# Altium footprint library Crazy_PCB.PcbLib: 126 footprints (part 6 of 8)
Each footprint in its own frame and in the unit in brackets; x right, y up, seen from the top. Pads: shape width x height; smd on the part's side, far side on the other; paste and mask are expansions set on the pad; w line width, h text height; cw(c..) or ccw(c..) is an arc to the next point about the centre after c.
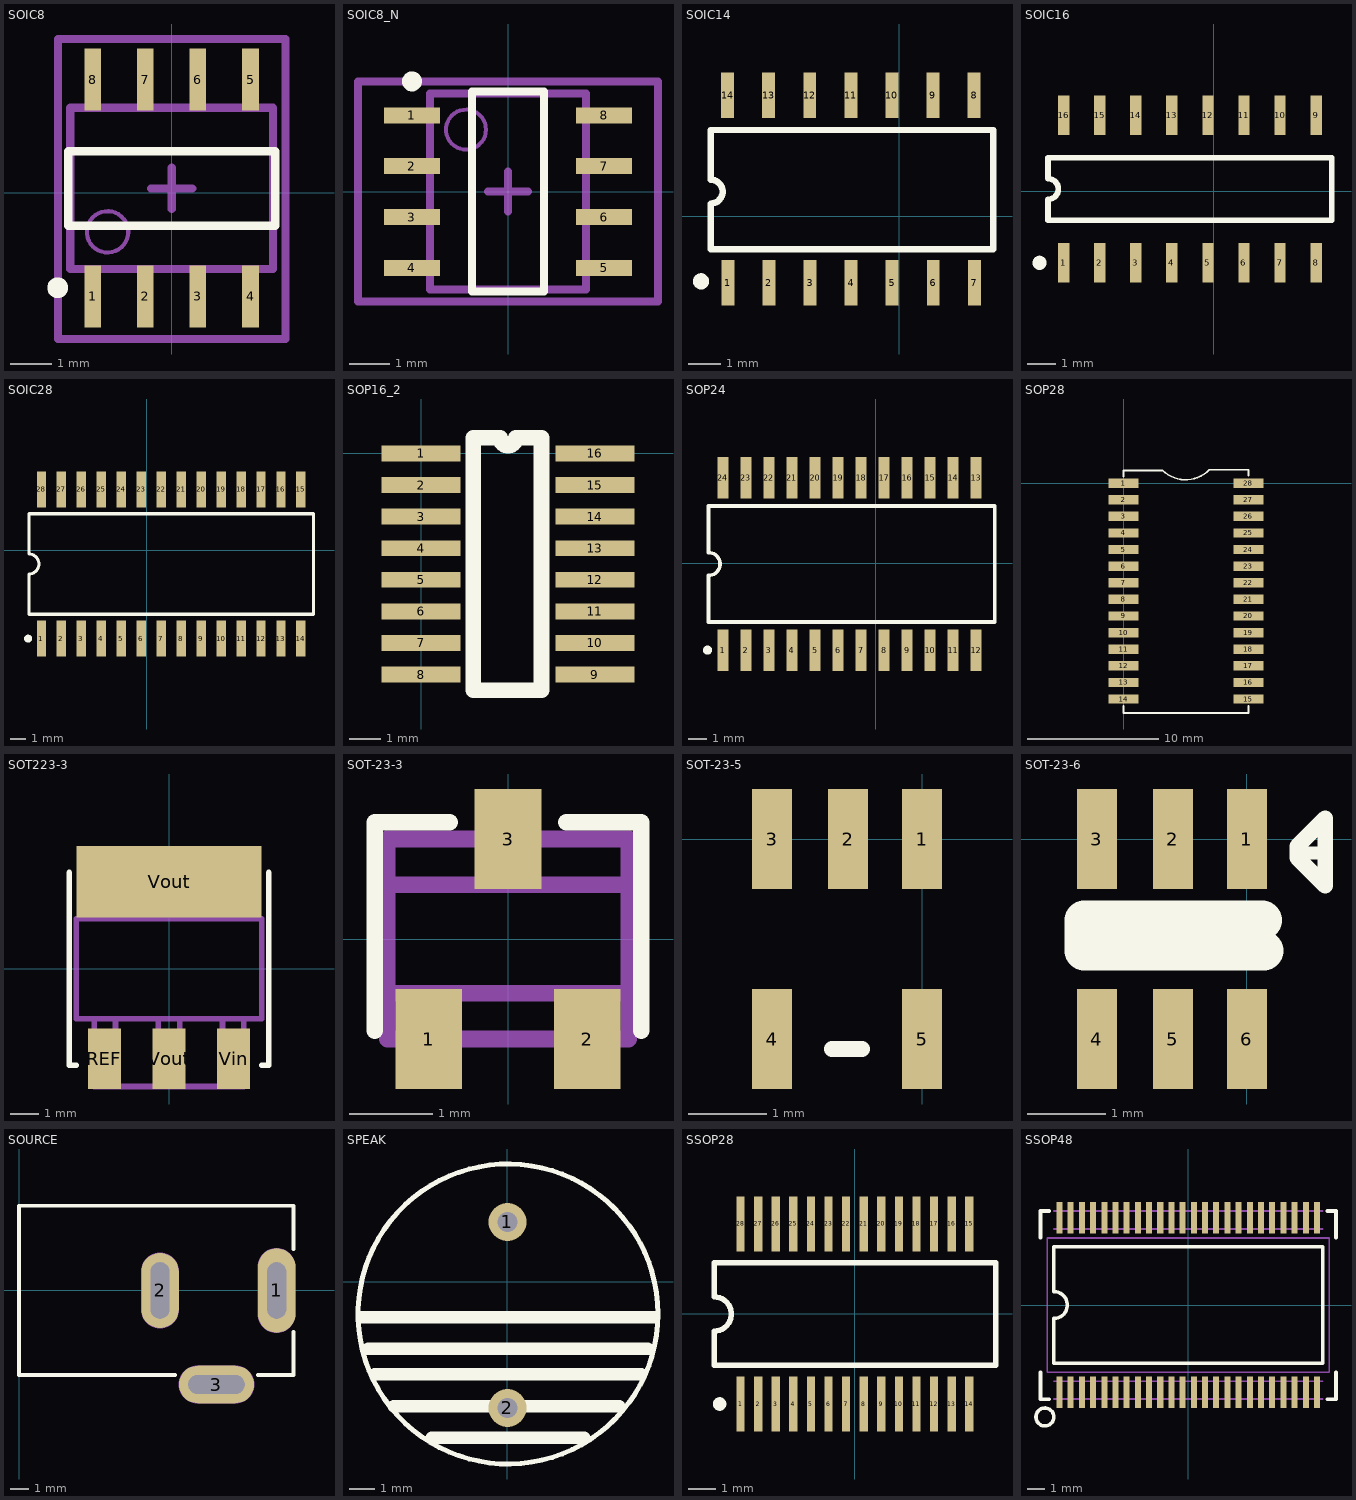
[diagram p5: the footprints below, top view; thin cyan lines are the x and y axes]

## SOIC8 [mm]
pads (8):
  rect 0.4x1.5 smd: 1(-1.907,-2.511) 2(-0.637,-2.511) 3(0.633,-2.511) 4(1.903,-2.511) 5(1.903,2.729) 6(0.633,2.729) 7(-0.637,2.729) 8(-1.907,2.729)
Top Overlay:
  circle w0.25: c-2.757,-2.301 r0.125
  lines w0.2: -2.502,-0.801 2.498,-0.801 2.498,0.999 -2.502,0.999 -2.502,-0.801
Mechanical 13:
  circle w0.1: c-1.552,-0.951 r0.5
  lines w0.2: -2.452,-1.851 2.448,-1.851 2.448,2.049 -2.452,2.049 -2.452,-1.851
Mechanical 15:
  lines w0.2: -0.502,0.099 0.498,0.099 ; -0.002,-0.401 -0.002,0.599 ; -2.752,-3.54 2.748,-3.54 2.748,3.71 -2.752,3.71 -2.752,-3.54
3D body: height 1.75, standoff 0, extent -2.452,-1.851 2.448,2.049

## SOIC8_N [mm] "SOIC, 8-Leads, Body 4.9x3.9mm, Pitch 1.27mm, IPC Medium Density"
height 1.75
pads (8):
  rect 1.4x0.4 smd: 1(-2.4,1.905) 2(-2.4,0.635) 3(-2.4,-0.635) 4(-2.4,-1.905) 5(2.4,-1.905) 6(2.4,-0.635) 7(2.4,0.635) 8(2.4,1.905)
Top Overlay:
  circle w0.25: c-2.4,2.755 r0.125
  lines w0.2: -0.9,-2.5 -0.9,2.5 0.9,2.5 0.9,-2.5 -0.9,-2.5
Mechanical 13:
  circle w0.1: c-1.05,1.55 r0.5
  lines w0.2: -1.95,-2.45 -1.95,2.45 1.95,2.45 1.95,-2.45 -1.95,-2.45
Mechanical 15:
  lines w0.2: -0.5,0 0.5,0 ; 0,-0.5 0,0.5 ; -3.75,-2.75 -3.75,2.75 3.75,2.75 3.75,-2.75 -3.75,-2.75
3D body: height 1.75, standoff 0, extent -1.95,-2.45 1.95,2.45

## SOIC14 [mm]
pads (14):
  rect 0.4x1.4 smd: 1(-5.3,-2.059) 2(-4.03,-2.059) 3(-2.76,-2.059) 4(-1.49,-2.059) 5(-0.22,-2.059) 6(1.05,-2.059) 7(2.32,-2.059) 8(2.31,3.73) 9(1.04,3.73) 10(-0.23,3.73) 11(-1.5,3.73) 12(-2.77,3.73) 13(-4.04,3.73) 14(-5.31,3.73)
Top Overlay:
  circle w0.25: c-6.13,-2.019 r0.125
  lines w0.2: -5.835,0.35 -5.835,-1.029 2.91,-1.029 2.91,2.66 -5.835,2.66 -5.835,1.13 ; -5.83,0.387 ccw(c-5.83,0.753) -5.83,1.12

## SOIC16 [mm]
pads (16):
  rect 0.4x1.4 smd: 1(-5.28,-2.529) 2(-4.01,-2.529) 3(-2.74,-2.529) 4(-1.47,-2.529) 5(-0.2,-2.529) 6(1.07,-2.529) 7(2.34,-2.529) 8(3.61,-2.529) 9(3.61,2.671) 10(2.34,2.671) 11(1.07,2.671) 12(-0.2,2.671) 13(-1.47,2.671) 14(-2.74,2.671) 15(-4.01,2.671) 16(-5.28,2.671)
Top Overlay:
  circle w0.25: c-6.13,-2.529 r0.125
  lines w0.2: -5.835,-1.029 4.165,-1.029 4.165,1.171 -5.835,1.171 -5.835,0.438 cw(c-5.835,0.071) -5.835,-0.296 -5.835,-1.029

## SOIC28 [mm]
pads (28):
  rect 0.6x2.3 smd: 1(-6.714,-5.635) 2(-5.444,-5.635) 3(-4.174,-5.635) 4(-2.904,-5.635) 5(-1.634,-5.635) 6(-0.364,-5.635) 7(0.906,-5.635) 8(2.176,-5.635) 9(3.446,-5.635) 10(4.716,-5.635) 11(5.986,-5.635) 12(7.256,-5.635) 13(8.526,-5.635) 14(9.796,-5.635) 15(9.796,3.865) 16(8.526,3.865) 17(7.256,3.865) 18(5.986,3.865) 19(4.716,3.865) 20(3.446,3.865) 21(2.176,3.865) 22(0.906,3.865) 23(-0.364,3.865) 24(-1.634,3.865) 25(-2.904,3.865) 26(-4.174,3.865) 27(-5.444,3.865) 28(-6.714,3.865)
Top Overlay:
  circle w0.25: c-7.564,-5.635 r0.125
  lines w0.2: -7.509,-4.085 10.591,-4.085 10.591,2.315 -7.509,2.315 -7.509,-0.25 cw(c-7.509,-0.885) -7.509,-1.52 -7.509,-4.085

## SOP16_2 [mm]
pads (16):
  rect 2.5x0.5 smd: 1(0,0) 2(0,-1) 3(0,-2) 4(0,-3) 5(0,-4) 6(0,-5) 7(0,-6) 8(0,-7) 9(5.5,-7) 10(5.5,-6) 11(5.5,-5) 12(5.5,-4) 13(5.5,-3) 14(5.5,-2) 15(5.5,-1) 16(5.5,0)
Top Overlay:
  lines w0.5: 1.651,-7.5 3.81,-7.5 3.81,0.5 3,0.5 cw(c2.75,0.5) 2.5,0.5 1.651,0.5 1.651,-7.5

## SOP24 [mm]
pads (24):
  rect 0.6x2.3 smd: 1(-8.444,-4.785) 2(-7.174,-4.785) 3(-5.904,-4.785) 4(-4.634,-4.785) 5(-3.364,-4.785) 6(-2.094,-4.785) 7(-0.824,-4.785) 8(0.446,-4.785) 9(1.716,-4.785) 10(2.986,-4.785) 11(4.256,-4.785) 12(5.526,-4.785) 13(5.526,4.715) 14(4.256,4.715) 15(2.986,4.715) 16(1.716,4.715) 17(0.446,4.715) 18(-0.824,4.715) 19(-2.094,4.715) 20(-3.364,4.715) 21(-4.634,4.715) 22(-5.904,4.715) 23(-7.174,4.715) 24(-8.444,4.715)
Top Overlay:
  circle w0.25: c-9.294,-4.785 r0.125
  lines w0.2: -9.239,-3.235 -9.239,-0.67 ccw(c-9.239,-0.035) -9.239,0.6 -9.239,3.165 6.55,3.165 6.55,-3.235 -9.239,-3.235

## SOP28 [mil]
pads (28):
  rect 90x28 smd: 1(0,0) 2(0,-50) 3(0,-100) 4(0,-150) 5(0,-200) 6(0,-250) 7(0,-300) 8(0,-350) 9(0,-400) 10(0,-450) 11(0,-500) 12(0,-550) 13(0,-600) 14(0,-650) 15(375.94,-650) 16(375.94,-600) 17(375.94,-550) 18(375.94,-500) 19(375.94,-450) 20(375.94,-400) 21(375.94,-350) 22(375.94,-300) 23(375.94,-250) 24(375.94,-200) 25(375.94,-150) 26(375.94,-100) 27(375.94,-50) 28(375.94,0)
Top Overlay:
  lines w5: 0,-670 0,-692 376,-692 376,-670 ; 0,20 0,38 118,38 ccw(c187,109) 258,40 376,40 376,22

## SOT223-3 [mil] "3-Lead SOT-223"
pads (4):
  rect 46x85 smd: REF(-90.55,-125.98) Vin(90.55,-125.98) Vout(0,-125.98)
  rect 260x100 smd: Vout(0,122.05)
Top Overlay:
  lines w7.87: -140,135 -140,-135 -130,-135 ; 130,-135 140,-135 140,135
Mechanical 1:
  lines w7.87: -105,-165 105,-165 ; -105,-100 -75,-100 ; -105,-70 -105,-135 -75,-135 -75,-70 ; -60,70 -60,135 60,135 60,70 ; -60,100 60,100 ; -60,165 60,165 ; -15,-100 15,-100 ; -15,-70 -15,-135 15,-135 15,-70 ; 75,-100 105,-100 ; 75,-70 75,-135 105,-135 105,-70 ; -130,-70 130,-70 130,70 -130,70 -130,-70

## SOT-23-3 [mm]
pads (3):
  rect 0.8x1.2 smd: 1(-0.95,-1.2) 2(0.95,-1.2) 3(0,1.2)
Top Overlay:
  lines w0.2: -1.6,-1.1 -1.6,1.4 -0.7,1.4 ; 0.7,1.4 1.6,1.4 1.6,-1.1
Mechanical 1:
  lines w0.2: -1.45,-0.65 1.45,-0.65 ; -1.45,0.65 1.45,0.65 ; -1.15,-1.2 -1.15,-0.65 ; -0.75,-1.2 -0.75,-0.65 ; -0.2,0.65 -0.2,1.2 ; 0.2,0.65 0.2,1.2 ; 0.75,-1.2 0.75,-0.65 ; 1.15,-1.2 1.15,-0.65 ; -1.45,-1.2 -1.45,1.2 1.45,1.2 1.45,-1.2 -1.45,-1.2

## SOT-23-5 [mil]
height 82.68
pads (5):
  rect 20x50 smd: 1(0,0) 2(-37,0) 3(-75,0) 4(-75,-100) 5(0,-100)
Top Overlay:
  lines w7.87: -45,-105 -30,-105

## SOT-23-6 [mil]
height 82.68
pads (6):
  rect 20x50 smd: 1(0,0) 2(-37,0) 3(-75,0) 4(-75,-100) 5(-36.94,-100) 6(0,-100)
Top Overlay:
  rectangle: 25.14,-10.14 39.14,-3.68
  lines w7.87: 25.14,-9.34 39.14,-23.34 39.14,10.32 25.14,-3.68 25.14,-9.34
  lines w19.68: -81.24,-55.92 -81.24,-40.57 7.63,-40.57 0.36,-47.85 8.44,-55.92 -81.24,-55.92

## SOURCE [mm] "DC Power Jack, 2.5mm, KLD Series, PCB Mount"
height 1.75
pads (3):
  oval 2x4.5 hole 1 slot 3 at 90 deg: 1(13.7,0)
  oval 2x4 hole 1 slot 3 at 90 deg: 2(7.5,0)
  oval 4x2 hole 1 slot 3 at 0 deg: 3(10.5,-5)
Top Overlay:
  lines w0.2: 8.3,-4.5 0,-4.5 0,4.5 14.6,4.5 14.6,2.2 ; 12.7,-4.5 14.6,-4.5 14.6,-2.2
Mechanical 1:
  lines w1: 7.5,-1 7.5,1 ; 9.5,-5 11.5,-5 ; 13.7,-1.25 13.7,1.25
Mechanical 2:
  lines w2.016: 7.5,-1 7.5,1 ; 9.5,-5 11.5,-5 ; 13.7,-1.25 13.7,1.25

## SPEAK [mil]
pads (2):
  round 60 hole 31.5: 1(0,94.49) 2(0,-198.43)
Top Overlay:
  circle w7.87: c0.84,-50.42 r236.22
  lines w19.68: -229.16,-55.43 230.84,-55.43 ; -219.16,-105.43 220.84,-105.43 ; -209.16,-145.43 210.84,-145.43 ; -179.16,-195.43 175.84,-195.43 ; -119.16,-245.43 120.84,-245.43

## SSOP28 [mm]
pads (28):
  rect 0.305x2.05 smd: 1(-4.225,-3.325) 2(-3.575,-3.325) 3(-2.925,-3.325) 4(-2.275,-3.325) 5(-1.625,-3.325) 6(-0.975,-3.325) 7(-0.325,-3.325) 8(0.325,-3.325) 9(0.975,-3.325) 10(1.625,-3.325) 11(2.275,-3.325) 12(2.925,-3.325) 13(3.575,-3.325) 14(4.225,-3.325) 15(4.225,3.325) 16(3.575,3.325) 17(2.925,3.325) 18(2.275,3.325) 19(1.625,3.325) 20(0.975,3.325) 21(0.325,3.325) 22(-0.325,3.325) 23(-0.975,3.325) 24(-1.625,3.325) 25(-2.275,3.325) 26(-2.925,3.325) 27(-3.575,3.325) 28(-4.225,3.325)
Top Overlay:
  circle w0.25: c-5,-3.325 r0.125
  lines w0.2: -5.2,-1.9 -5.2,-0.633 ccw(c-5.2,0) -5.2,0.633 -5.2,1.9 5.2,1.9 5.2,-1.9 -5.2,-1.9

## SSOP48 [mil] "48-Lead Shrink Small-Outline Package"
height 110
pads (48):
  rect 13.5x70 smd: 1(-287.5,-195) 2(-262.5,-195) 3(-237.5,-195) 4(-212.5,-195) 5(-187.5,-195) 6(-162.5,-195) 7(-137.5,-195) 8(-112.5,-195) 9(-87.5,-195) 10(-62.5,-195) 11(-37.5,-195) 12(-12.5,-195) 13(12.5,-195) 14(37.5,-195) 15(62.5,-195) 16(87.5,-195) 17(112.5,-195) 18(137.5,-195) 19(162.5,-195) 20(187.5,-195) 21(212.5,-195) 22(237.5,-195) 23(262.5,-195) 24(287.5,-195) 25(287.5,195) 26(262.5,195) 27(237.5,195) 28(212.5,195) 29(187.5,195) 30(162.5,195) 31(137.5,195) 32(112.5,195) 33(87.5,195) 34(62.5,195) 35(37.5,195) 36(12.5,195) 37(-12.5,195) 38(-37.5,195) 39(-62.5,195) 40(-87.5,195) 41(-112.5,195) 42(-137.5,195) 43(-162.5,195) 44(-187.5,195) 45(-212.5,195) 46(-237.5,195) 47(-262.5,195) 48(-287.5,195)
Top Overlay:
  circle w8: c-320,-250 r20
  lines w8: -330,-150 -330,-210 -310,-210 ; -330,150 -330,210 -310,210 ; 310,-210 330,-210 330,-150 ; 310,210 330,210 330,150 ; -300,-130 -300,-30 ccw(c-300,0) -300,30 -300,130 300,130 300,-130 -300,-130
Mechanical 1:
  lines w4: -300,-210 300,-210 ; -300,-170 300,-170 ; -300,170 300,170 ; -300,210 300,210 ; -315,-150 315,-150 315,150 -315,150 -315,-150